# Altium footprint library 封装库.PCBLIB: 282 footprints (part 15 of 18)
Each footprint in its own frame and in the unit in brackets; x right, y up, seen from the top. Pads: shape width x height; smd on the part's side, far side on the other; paste and mask are expansions set on the pad; w line width, h text height; cw(c..) or ccw(c..) is an arc to the next point about the centre after c.
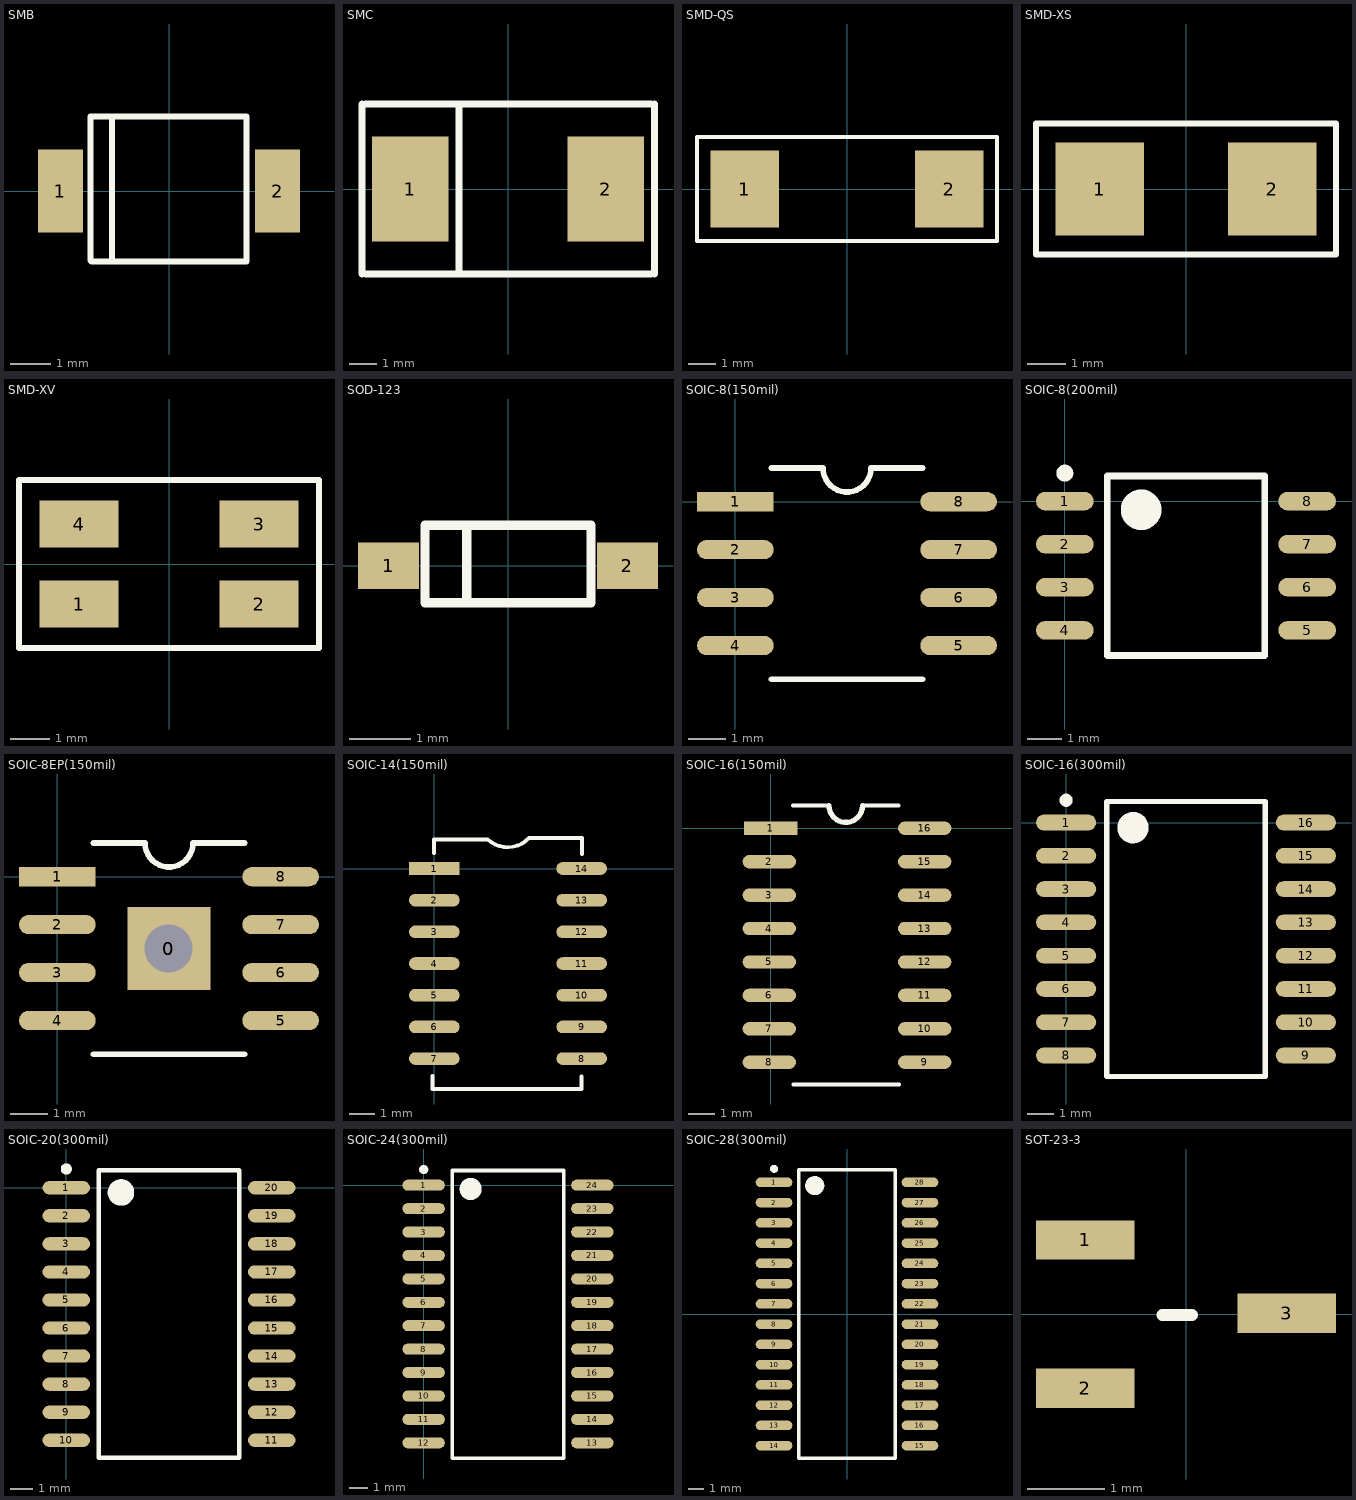
[diagram p14: the footprints below, top view; thin cyan lines are the x and y axes]

## SMB [mm]
pads (2):
  rect 1.1x2.03 smd: 1(-2.667,0) 2(2.667,0)
TopOverlay:
  lines w0.152: -1.397,-1.727 -1.397,1.829 ; -1.93,-1.702 -1.905,-1.727 1.905,-1.727 1.905,1.829 -1.93,1.829 -1.93,-1.702

## SMC [mil]
pads (2):
  rect 110x150 smd: 1(-140,0) 2(140,0)
TopOverlay:
  lines w10: -209,-122 -209,122 ; -204,-122 205,-122 ; -204,122 205,122 ; -70,-122 -70,122 ; 210,-122 210,122

## SMD-QS [mm]
pads (2):
  rect 2.5x2.8 smd: 1(-3.734,0) 2(3.734,0)
TopOverlay:
  lines w0.152: -5.486,0 -5.486,1.473 ; -5.486,0.889 -5.486,-1.905 -3.023,-1.905 ; -5.486,1.168 -5.486,1.905 -3.734,1.905 ; -4.42,1.905 3.937,1.905 ; -4.089,-1.905 3.937,-1.905 ; 3.404,-1.905 4.877,-1.905 ; 3.505,1.905 5.486,1.905 5.486,1.016 ; 4.521,-1.905 5.486,-1.905 5.486,-0.559 ; 5.486,-1.473 5.486,0 5.486,0.864 ; 5.486,0.508 5.486,1.27

## SMD-XS [mm]
pads (2):
  rect 2.3x2.4 smd: 1(-2.235,0) 2(2.235,0)
TopOverlay:
  lines w0.152: -2.946,1.702 -0.102,1.702 ; -2.261,1.702 2.489,1.702 3.886,1.702 3.886,1.092 3.886,-0.838 ; -2.134,1.702 -3.886,1.702 -3.886,1.346 -3.886,-0.254 -3.886,-1.702 3.886,-1.702 3.886,-1.143 3.886,0

## SMD-XV [mm]
pads (4):
  rect 2x1.2 smd: 1(-2.286,-1.016) 2(2.286,-1.016) 3(2.286,1.016) 4(-2.286,1.016)
TopOverlay:
  lines w0.152: -3.81,-1.6 -3.81,-0.584 ; -3.81,-1.346 -3.81,-2.134 -2.972,-2.134 ; -3.81,-1.27 -3.81,1.27 ; -3.81,0.533 -3.81,2.134 -2.921,2.134 ; -3.404,2.134 3.378,2.134 ; -3.048,-2.134 2.591,-2.134 3.81,-2.134 ; 2.819,2.134 3.81,2.134 3.81,-1.829 ; 3.15,-2.134 3.81,-2.134 ; 3.81,-1.092 3.81,-2.134 ; 3.81,-0.381 3.81,1.27

## SOD-123 [mil]
pads (2):
  rect 39.37x30 smd: 1(-77,0) 2(77,0)
TopOverlay:
  lines w6: -26.5,-24 -26.5,25 ; 53.5,-14 53.5,14 ; 53.5,-2 53.5,-24 23.5,-24 7.5,-24 -35.5,-24 -53.5,-24 -53.5,26 -36.5,26 8.5,26 23.5,26 53.5,26 53.5,0

## SOIC-8(150mil) [mil]
pads (8):
  rect 80x20 smd: 1(0,0)
  oval 80x20 smd: 2(0,-50) 3(0,-100) 4(0,-150) 5(232.85,-150) 6(232.85,-100) 7(232.85,-50) 8(232.85,0)
TopOverlay:
  lines w6: 37.69,-185.24 195.16,-185.24 ; 37.69,35.24 91.42,35.24 ; 91.42,35 ccw(c116.42,35) 141.43,35 ; 141.43,35.24 195.16,35.24

## SOIC-8(200mil) [mm]
pads (8):
  oval 1.7x0.55 smd: 1(0,0) 2(0,-1.27) 3(0,-2.54) 4(0,-3.81) 5(7.15,-3.81) 6(7.15,-2.54) 7(7.15,-1.27) 8(7.15,0)
TopOverlay:
  circle w0.25: c0,0.825 r0.125
  circle w0.6: c2.25,-0.255 r0.3
  lines w0.2: 1.25,-4.555 1.25,0.745 5.9,0.745 5.9,-4.555 1.25,-4.555

## SOIC-8EP(150mil) [mil]
pads (10):
  round 70.87 hole 50: 0(116,-75)
  rect 86.61x86.61 smd: 0(116.42,-75)
  rect 80x20 smd: 1(0,0)
  oval 80x20 smd: 2(0,-50) 3(0,-100) 4(0,-150) 5(232.85,-150) 6(232.85,-100) 7(232.85,-50) 8(232.85,0)
TopOverlay:
  lines w6: 37.69,-185.24 195.16,-185.24 ; 37.69,35.24 91.42,35.24 ; 91.42,35 ccw(c116.42,35) 141.43,35 ; 141.43,35.24 195.16,35.24

## SOIC-14(150mil) [mil]
pads (14):
  rect 80x20 smd: 1(0,0)
  oval 80x20 smd: 2(0,-50) 3(0,-100) 4(0,-150) 5(0,-200) 6(0,-250) 7(0,-300) 8(232.6,-300) 9(232.6,-250) 10(232.6,-200) 11(232.6,-150) 12(232.6,-100) 13(232.6,-50) 14(232.6,0)
TopOverlay:
  lines w6: -2.7,-327 -2.7,-348 232.3,-348 232.3,-328 ; -0.7,24 -0.7,46 84.3,46 ccw(c115.8,79.5) 149.3,48 233.3,48 233.3,23

## SOIC-16(150mil) [mil]
pads (16):
  rect 80x20 smd: 1(0,0)
  oval 80x20 smd: 2(-2,-50) 3(-2,-100) 4(-2,-150) 5(-2,-200) 6(-2,-250) 7(-2,-300) 8(-2,-350) 9(230.43,-350) 10(230.43,-300) 11(230.43,-250) 12(230.43,-200) 13(230.43,-150) 14(230.43,-100) 15(230.43,-50) 16(230.43,0)
TopOverlay:
  lines w6: 33.68,33.66 87.42,33.66 ; 34.37,-383 191.85,-383 ; 137.43,33.66 191.16,33.66
  lines w7.87: 87.42,33.66 ccw(c112.42,33.66) 137.43,33.66

## SOIC-16(300mil) [mm]
pads (16):
  oval 2.3x0.6 smd: 1(0,0) 2(0,-1.27) 3(0,-2.54) 4(0,-3.81) 5(0,-5.08) 6(0,-6.35) 7(0,-7.62) 8(0,-8.89) 9(9.15,-8.89) 10(9.15,-7.62) 11(9.15,-6.35) 12(9.15,-5.08) 13(9.15,-3.81) 14(9.15,-2.54) 15(9.15,-1.27) 16(9.15,0)
TopOverlay:
  circle w0.25: c0,0.85 r0.125
  circle w0.6: c2.55,-0.195 r0.3
  lines w0.2: 1.55,-9.695 1.55,0.805 7.6,0.805 7.6,-9.695 1.55,-9.695

## SOIC-20(300mil) [mm]
pads (20):
  oval 2.15x0.6 smd: 1(0,0) 2(0,-1.27) 3(0,-2.54) 4(0,-3.81) 5(0,-5.08) 6(0,-6.35) 7(0,-7.62) 8(0,-8.89) 9(0,-10.16) 10(0,-11.43) 11(9.3,-11.43) 12(9.3,-10.16) 13(9.3,-8.89) 14(9.3,-7.62) 15(9.3,-6.35) 16(9.3,-5.08) 17(9.3,-3.81) 18(9.3,-2.54) 19(9.3,-1.27) 20(9.3,0)
TopOverlay:
  circle w0.25: c0,0.85 r0.125
  circle w0.6: c2.475,-0.215 r0.3
  lines w0.2: 1.475,-12.215 1.475,0.785 7.825,0.785 7.825,-12.215 1.475,-12.215

## SOIC-24(300mil) [mm]
pads (24):
  oval 2.3x0.6 smd: 1(0,0) 2(0,-1.27) 3(0,-2.54) 4(0,-3.81) 5(0,-5.08) 6(0,-6.35) 7(0,-7.62) 8(0,-8.89) 9(0,-10.16) 10(0,-11.43) 11(0,-12.7) 12(0,-13.97) 13(9.15,-13.97) 14(9.15,-12.7) 15(9.15,-11.43) 16(9.15,-10.16) 17(9.15,-8.89) 18(9.15,-7.62) 19(9.15,-6.35) 20(9.15,-5.08) 21(9.15,-3.81) 22(9.15,-2.54) 23(9.15,-1.27) 24(9.15,0)
TopOverlay:
  circle w0.6: c2.55,-0.205 r0.3
  circle w0.25: c0,0.85 r0.125
  lines w0.2: 1.55,-14.808 7.6,-14.808 7.6,0.795 1.55,0.795 1.55,-14.808

## SOIC-28(300mil) [mm]
pads (28):
  oval 2.3x0.6 smd: 1(-4.575,8.255) 2(-4.575,6.985) 3(-4.575,5.715) 4(-4.575,4.445) 5(-4.575,3.175) 6(-4.575,1.905) 7(-4.575,0.635) 8(-4.575,-0.635) 9(-4.575,-1.905) 10(-4.575,-3.175) 11(-4.575,-4.445) 12(-4.575,-5.715) 13(-4.575,-6.985) 14(-4.575,-8.255) 15(4.575,-8.255) 16(4.575,-6.985) 17(4.575,-5.715) 18(4.575,-4.445) 19(4.575,-3.175) 20(4.575,-1.905) 21(4.575,-0.635) 22(4.575,0.635) 23(4.575,1.905) 24(4.575,3.175) 25(4.575,4.445) 26(4.575,5.715) 27(4.575,6.985) 28(4.575,8.255)
TopOverlay:
  circle w0.6: c-2.025,8.05 r0.3
  circle w0.25: c-4.575,9.105 r0.125
  lines w0.2: -3.025,-9.05 3.025,-9.05 3.025,9.05 -3.025,9.05 -3.025,-9.05

## SOT-23-3 [mil]
pads (3):
  rect 50x20 smd: 1(-51,37.5) 2(-51,-37.5) 3(51,0.5)
TopOverlay:
  lines w6: -12,-0.5 3,-0.5